# Altium schematic symbol library Maxim Amplifiers and Comparators.SchLib: 420 symbols (part 2 of 16)
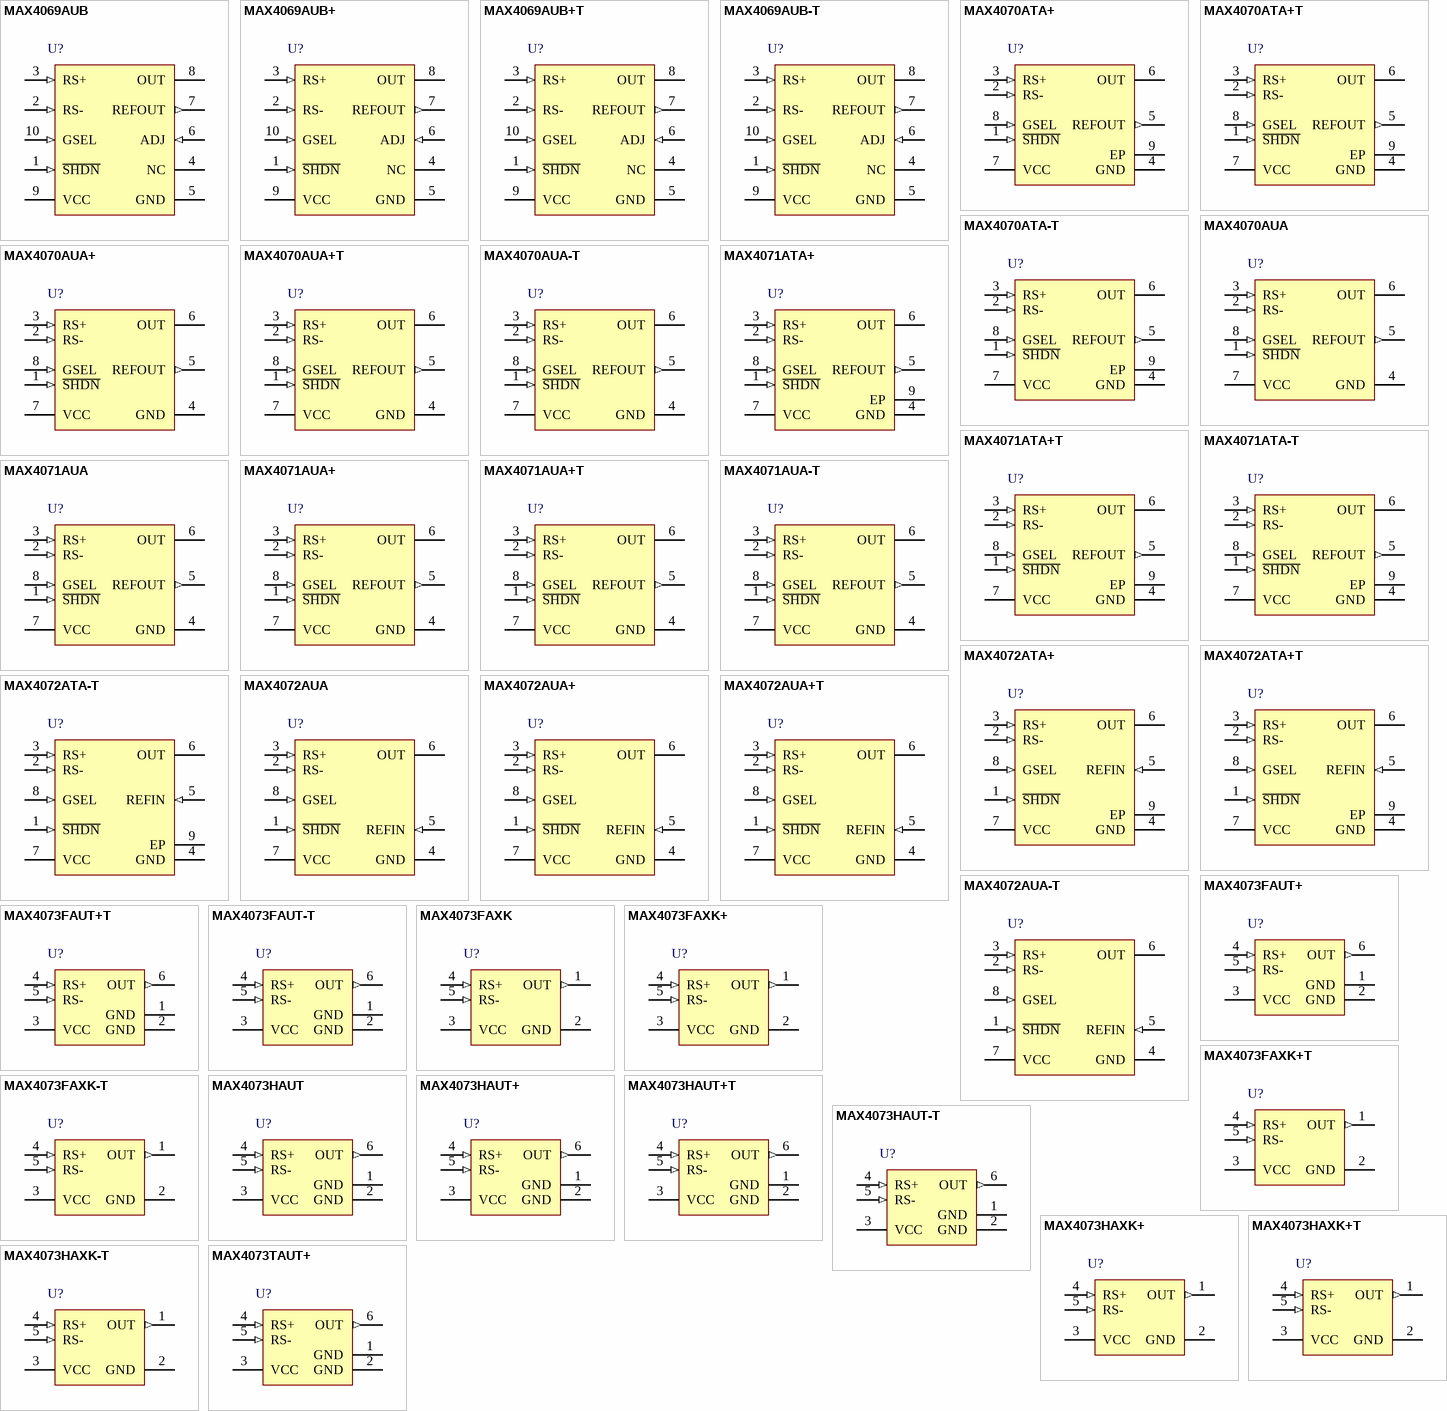
[diagram p11: symbols MAX4069AUB to MAX4073TAUT+]

## MAX4072AUA-T
designator U?
Bidirectional, High-Side Current-Sense Amplifier with Reference Input, 50 V / V, 100 V / V Gain, -40 to 125 degC, 8-Pin SOP (U8-1), Tape and Reel; PartNumber: MAX4072AUA-T; Bi-Dir. Curr. Sense: Yes; Industry Qualified: Automotive - General; DatasheetVersion: Rev. 3; PackageVersion: Rev. L, 08/2009; PackageReference: U8-1; PackageDescription: 8-Pin Micro-MAX, Thin Shrink Small-Outline (U8-1), Body 3 x 3 mm, Pitch 0.65mm; Supplier 1: Digi-Key; Supplier Part Number 1: MAX4072AUA-T-ND; Supplier 2: Mouser; Supplier Part Number 2: 700-MAX4072AUA-T-; Gain: 50 V/V, 100 V/V; Mounting Technology: Surface Mount; Code_JEDEC: MO-187; ComponentLink1Description: Manufacturer URL; ComponentLink1URL: http://www.maximintegrated.com/; ComponentLink2Description: Datasheet; ComponentLink2URL: http://datasheets.maximintegrated.com/en/ds/MAX4069-MAX4072.pdf; ComponentLink3Description: Package Specification; ComponentLink3URL: http://pdfserv.maximintegrated.com/package_dwgs/21-0036.PDF
footprint MAXM-U8-1_N (SOP, 8-Leads, Body 3x3mm, Pitch 0.65mm, IPC Medium Density)
footprint MAXM-U8-1_L (SOP, 8-Leads, Body 3x3mm, Pitch 0.65mm, IPC High Density)
footprint MAXM-U8-1_M (SOP, 8-Leads, Body 3x3mm, Pitch 0.65mm, IPC Low Density)
pins: 1 ~{SHDN} (in) "Shutdown Input. Drive S\H\D\N\ low to select shutdown mode. Connect S\H\D\N\ to VCC for normal operation.", 2 RS- (in) "Negative Connection to the External Sense Resistor", 3 RS+ (in) "Positive Connection to the External Sense Resistor", 4 GND (power) "Ground. For thin QFN packages, also make an external connection from GND to the under-side exposed paddle.", 5 REFIN (in) "Reference Input Voltage.", 6 OUT (hiz) "Voltage Output. The difference voltage, VOUT - VREF, is proportional to the voltage difference between RS+ and RS- and indicates the correct polarity.", 7 VCC (power) "Supply Voltage Input. Bypass VCC to GND with a 0.1uF capacitor.", 8 GSEL (in) "Gain-Setting Input. Connect GSEL low to select gain = 50V/V, or connect GSEL high to select gain = 100V/V."

## MAX4073FAUT+
designator U?
Lowest-Cost, Voltage-Output, High-Side Current-Sense Amplifier, 50 V / V Gain, -40 to 125 degC, 6-Pin SOT23 (U6+4), Pb-Free; PartNumber: MAX4073FAUT+; Bi-Dir. Curr. Sense: No; Gain: 20 V/V, 50 V/V ,100 V/V; Industry Qualified: Automotive - General; DatasheetVersion: Rev. 1; PackageVersion: Rev. N, 08/2012; PackageReference: U6+4; PackageDescription: 6-Pin Small-Outline Transistor Package, Body 1.625 x 2.9 mm, Pitch 0.95 mm; Supplier 1: Mouser; Supplier Part Number 1: N/A; Mounting Technology: Surface Mount; Code_JEDEC: MO-178; ComponentLink1Description: Manufacturer URL; ComponentLink1URL: http://www.maximintegrated.com/; ComponentLink2Description: Datasheet; ComponentLink2URL: http://datasheets.maximintegrated.com/en/ds/MAX4073-MAX4073T.pdf; ComponentLink3Description: Package Specification; ComponentLink3URL: http://pdfserv.maximintegrated.com/package_dwgs/21-0058.PDF
footprint MAXM-U6+4_N (SOT23, 6-Leads, Body 2.9x1.625mm, Pitch 0.95mm, IPC Medium Density)
footprint MAXM-U6+4_L (SOT23, 6-Leads, Body 2.9x1.625mm, Pitch 0.95mm, IPC High Density)
footprint MAXM-U6+4_M (SOT23, 6-Leads, Body 2.9x1.625mm, Pitch 0.95mm, IPC Low Density)
pins: 1 GND (power) "Ground", 2 GND (power) "Ground", 3 VCC (power) "Supply Voltage Input. Bypass to GND with a 0.1uF capacitor", 4 RS+ (in) "Power-Side Connection to the External Sense Resistor", 5 RS- (in) "Load-Side Connection to the External Sense Resistor", 6 OUT (out) "Voltage Output. VOUT is proportional to VSENSE. Output impedance is approximately 12k ohm."

## MAX4073FAUT+T
designator U?
Lowest-Cost, Voltage-Output, High-Side Current-Sense Amplifier, 50 V / V Gain, -40 to 125 degC, 6-Pin SOT23 (U6+4), Pb-Free, Tape and Reel; PartNumber: MAX4073FAUT+T; Bi-Dir. Curr. Sense: No; Gain: 20 V/V, 50 V/V ,100 V/V; Industry Qualified: Automotive - General; DatasheetVersion: Rev. 1; PackageVersion: Rev. N, 08/2012; PackageReference: U6+4; PackageDescription: 6-Pin Small-Outline Transistor Package, Body 1.625 x 2.9 mm, Pitch 0.95 mm; Supplier 1: Digi-Key; Supplier Part Number 1: MAX4073FAUT+TTR-ND; Supplier 2: Digi-Key; Supplier Part Number 2: MAX4073FAUT+TCT-ND; Supplier 3: Digi-Key; Supplier Part Number 3: MAX4073FAUT+TDKR-ND; Supplier 4: Mouser; Supplier Part Number 4: 700-MAX4073FAUT+T; Mounting Technology: Surface Mount; Code_JEDEC: MO-178; ComponentLink1Description: Manufacturer URL; ComponentLink1URL: http://www.maximintegrated.com/; ComponentLink2Description: Datasheet; ComponentLink2URL: http://datasheets.maximintegrated.com/en/ds/MAX4073-MAX4073T.pdf; ComponentLink3Description: Package Specification; ComponentLink3URL: http://pdfserv.maximintegrated.com/package_dwgs/21-0058.PDF
footprint MAXM-U6+4_N (SOT23, 6-Leads, Body 2.9x1.625mm, Pitch 0.95mm, IPC Medium Density)
footprint MAXM-U6+4_L (SOT23, 6-Leads, Body 2.9x1.625mm, Pitch 0.95mm, IPC High Density)
footprint MAXM-U6+4_M (SOT23, 6-Leads, Body 2.9x1.625mm, Pitch 0.95mm, IPC Low Density)
pins: 1 GND (power) "Ground", 2 GND (power) "Ground", 3 VCC (power) "Supply Voltage Input. Bypass to GND with a 0.1uF capacitor", 4 RS+ (in) "Power-Side Connection to the External Sense Resistor", 5 RS- (in) "Load-Side Connection to the External Sense Resistor", 6 OUT (out) "Voltage Output. VOUT is proportional to VSENSE. Output impedance is approximately 12k ohm."

## MAX4073FAUT-T
designator U?
Lowest-Cost, Voltage-Output, High-Side Current-Sense Amplifier, 50 V / V Gain, -40 to 125 degC, 6-Pin SOT23 (U6-4), Tape and Reel; PartNumber: MAX4073FAUT-T; Bi-Dir. Curr. Sense: No; Gain: 20 V/V, 50 V/V ,100 V/V; Industry Qualified: Automotive - General; DatasheetVersion: Rev. 1; PackageVersion: Rev. N, 08/2012; PackageReference: U6-4; PackageDescription: 6-Pin Small-Outline Transistor Package, Body 1.625 x 2.9 mm, Pitch 0.95 mm; Supplier 1: Digi-Key; Supplier Part Number 1: MAX4073FAUT-T-ND; Supplier 2: Mouser; Supplier Part Number 2: 700-MAX4073FAUT-T-; Mounting Technology: Surface Mount; Code_JEDEC: MO-178; ComponentLink1Description: Manufacturer URL; ComponentLink1URL: http://www.maximintegrated.com/; ComponentLink2Description: Datasheet; ComponentLink2URL: http://datasheets.maximintegrated.com/en/ds/MAX4073-MAX4073T.pdf; ComponentLink3Description: Package Specification; ComponentLink3URL: http://pdfserv.maximintegrated.com/package_dwgs/21-0058.PDF
footprint MAXM-U6-4_N (SOT23, 6-Leads, Body 2.9x1.625mm, Pitch 0.95mm, IPC Medium Density)
footprint MAXM-U6-4_L (SOT23, 6-Leads, Body 2.9x1.625mm, Pitch 0.95mm, IPC High Density)
footprint MAXM-U6-4_M (SOT23, 6-Leads, Body 2.9x1.625mm, Pitch 0.95mm, IPC Low Density)
pins: 1 GND (power) "Ground", 2 GND (power) "Ground", 3 VCC (power) "Supply Voltage Input. Bypass to GND with a 0.1uF capacitor", 4 RS+ (in) "Power-Side Connection to the External Sense Resistor", 5 RS- (in) "Load-Side Connection to the External Sense Resistor", 6 OUT (out) "Voltage Output. VOUT is proportional to VSENSE. Output impedance is approximately 12k ohm."

## MAX4073FAXK
designator U?
Lowest-Cost, Voltage-Output, High-Side Current-Sense Amplifier, 50 V / V Gain, -40 to 125 degC, 5-Pin SC70 (X5-1); PartNumber: MAX4073FAXK; Bi-Dir. Curr. Sense: No; Gain: 20 V/V, 50 V/V ,100 V/V; Industry Qualified: Automotive - General; DatasheetVersion: Rev. 1; PackageVersion: Rev. F, 06/2011; PackageReference: X5-1; PackageDescription: 5-Pin SC70 Transistor Package (X5-1), Body 2 x 1.25 mm, Pitch 0.65 mm; Supplier 1: Mouser; Supplier Part Number 1: N/A; Mounting Technology: Surface Mount; Code_JEDEC: MO-203; ComponentLink1Description: Manufacturer URL; ComponentLink1URL: http://www.maximintegrated.com/; ComponentLink2Description: Datasheet; ComponentLink2URL: http://datasheets.maximintegrated.com/en/ds/MAX4073-MAX4073T.pdf; ComponentLink3Description: Package Specification; ComponentLink3URL: http://pdfserv.maximintegrated.com/package_dwgs/21-0076.PDF
footprint MAXM-X5-1_N (SOT23, 5-Leads, Body 2x1.25mm, Pitch 0.65mm, IPC Medium Density)
footprint MAXM-X5-1_L (SOT23, 5-Leads, Body 2x1.25mm, Pitch 0.65mm, IPC High Density)
footprint MAXM-X5-1_M (SOT23, 5-Leads, Body 2x1.25mm, Pitch 0.65mm, IPC Low Density)
pins: 1 OUT (out) "Voltage Output. VOUT is proportional to VSENSE. Output impedance is approximately 12k ohm.", 2 GND (power) "Ground", 3 VCC (power) "Supply Voltage Input. Bypass to GND with a 0.1uF capacitor", 4 RS+ (in) "Power-Side Connection to the External Sense Resistor", 5 RS- (in) "Load-side connection to the external sense resistor"

## MAX4073FAXK+
designator U?
Lowest-Cost, Voltage-Output, High-Side Current-Sense Amplifier, 50 V / V Gain, -40 to 125 degC, 5-Pin SC70 (X5+1), Pb-Free; PartNumber: MAX4073FAXK+; Bi-Dir. Curr. Sense: No; Gain: 20 V/V, 50 V/V ,100 V/V; Industry Qualified: Automotive - General; DatasheetVersion: Rev. 1; PackageVersion: Rev. F, 06/2011; PackageReference: X5+1; PackageDescription: 5-Pin SC70 Transistor Package (X5+1), Body 2 x 1.25 mm, Pitch 0.65 mm; Supplier 1: Mouser; Supplier Part Number 1: N/A; Mounting Technology: Surface Mount; Code_JEDEC: MO-203; ComponentLink1Description: Manufacturer URL; ComponentLink1URL: http://www.maximintegrated.com/; ComponentLink2Description: Datasheet; ComponentLink2URL: http://datasheets.maximintegrated.com/en/ds/MAX4073-MAX4073T.pdf; ComponentLink3Description: Package Specification; ComponentLink3URL: http://pdfserv.maximintegrated.com/package_dwgs/21-0076.PDF
footprint MAXM-X5+1_N (SOT23, 5-Leads, Body 2x1.25mm, Pitch 0.65mm, IPC Medium Density)
footprint MAXM-X5+1_L (SOT23, 5-Leads, Body 2x1.25mm, Pitch 0.65mm, IPC High Density)
footprint MAXM-X5+1_M (SOT23, 5-Leads, Body 2x1.25mm, Pitch 0.65mm, IPC Low Density)
pins: 1 OUT (out) "Voltage Output. VOUT is proportional to VSENSE. Output impedance is approximately 12k ohm.", 2 GND (power) "Ground", 3 VCC (power) "Supply Voltage Input. Bypass to GND with a 0.1uF capacitor", 4 RS+ (in) "Power-Side Connection to the External Sense Resistor", 5 RS- (in) "Load-side connection to the external sense resistor"

## MAX4073FAXK+T
designator U?
Lowest-Cost, Voltage-Output, High-Side Current-Sense Amplifier, 50 V / V Gain, -40 to 125 degC, 5-Pin SC70 (X5+1), Pb-Free, Tape and Reel; PartNumber: MAX4073FAXK+T; Bi-Dir. Curr. Sense: No; Gain: 20 V/V, 50 V/V ,100 V/V; Industry Qualified: Automotive - General; DatasheetVersion: Rev. 1; PackageVersion: Rev. F, 06/2011; PackageReference: X5+1; PackageDescription: 5-Pin SC70 Transistor Package (X5+1), Body 2 x 1.25 mm, Pitch 0.65 mm; Supplier 1: Digi-Key; Supplier Part Number 1: MAX4073FAXK+TTR-ND; Supplier 2: Digi-Key; Supplier Part Number 2: MAX4073FAXK+TCT-ND; Supplier 3: Digi-Key; Supplier Part Number 3: MAX4073FAXK+TDKR-ND; Supplier 4: Mouser; Supplier Part Number 4: 700-MAX4073FAXK+T; Mounting Technology: Surface Mount; Code_JEDEC: MO-203; ComponentLink1Description: Manufacturer URL; ComponentLink1URL: http://www.maximintegrated.com/; ComponentLink2Description: Datasheet; ComponentLink2URL: http://datasheets.maximintegrated.com/en/ds/MAX4073-MAX4073T.pdf; ComponentLink3Description: Package Specification; ComponentLink3URL: http://pdfserv.maximintegrated.com/package_dwgs/21-0076.PDF
footprint MAXM-X5+1_N (SOT23, 5-Leads, Body 2x1.25mm, Pitch 0.65mm, IPC Medium Density)
footprint MAXM-X5+1_L (SOT23, 5-Leads, Body 2x1.25mm, Pitch 0.65mm, IPC High Density)
footprint MAXM-X5+1_M (SOT23, 5-Leads, Body 2x1.25mm, Pitch 0.65mm, IPC Low Density)
pins: 1 OUT (out) "Voltage Output. VOUT is proportional to VSENSE. Output impedance is approximately 12k ohm.", 2 GND (power) "Ground", 3 VCC (power) "Supply Voltage Input. Bypass to GND with a 0.1uF capacitor", 4 RS+ (in) "Power-Side Connection to the External Sense Resistor", 5 RS- (in) "Load-side connection to the external sense resistor"

## MAX4073FAXK-T
designator U?
Lowest-Cost, Voltage-Output, High-Side Current-Sense Amplifier, 50 V / V Gain, -40 to 125 degC, 5-Pin SC70 (X5-1), Tape and Reel; PartNumber: MAX4073FAXK-T; Bi-Dir. Curr. Sense: No; Gain: 20 V/V, 50 V/V ,100 V/V; Industry Qualified: Automotive - General; DatasheetVersion: Rev. 1; PackageVersion: Rev. F, 06/2011; PackageReference: X5-1; PackageDescription: 5-Pin SC70 Transistor Package (X5-1), Body 2 x 1.25 mm, Pitch 0.65 mm; Supplier 1: Digi-Key; Supplier Part Number 1: MAX4073FAXK-T-ND; Supplier 2: Mouser; Supplier Part Number 2: 700-MAX4073FAXK-T-; Mounting Technology: Surface Mount; Code_JEDEC: MO-203; ComponentLink1Description: Manufacturer URL; ComponentLink1URL: http://www.maximintegrated.com/; ComponentLink2Description: Datasheet; ComponentLink2URL: http://datasheets.maximintegrated.com/en/ds/MAX4073-MAX4073T.pdf; ComponentLink3Description: Package Specification; ComponentLink3URL: http://pdfserv.maximintegrated.com/package_dwgs/21-0076.PDF
footprint MAXM-X5-1_N (SOT23, 5-Leads, Body 2x1.25mm, Pitch 0.65mm, IPC Medium Density)
footprint MAXM-X5-1_L (SOT23, 5-Leads, Body 2x1.25mm, Pitch 0.65mm, IPC High Density)
footprint MAXM-X5-1_M (SOT23, 5-Leads, Body 2x1.25mm, Pitch 0.65mm, IPC Low Density)
pins: 1 OUT (out) "Voltage Output. VOUT is proportional to VSENSE. Output impedance is approximately 12k ohm.", 2 GND (power) "Ground", 3 VCC (power) "Supply Voltage Input. Bypass to GND with a 0.1uF capacitor", 4 RS+ (in) "Power-Side Connection to the External Sense Resistor", 5 RS- (in) "Load-side connection to the external sense resistor"

## MAX4073HAUT
designator U?
Lowest-Cost, Voltage-Output, High-Side Current-Sense Amplifier, 100 V / V Gain, -40 to 125 degC, 6-Pin SOT23 (U6-4); PartNumber: MAX4073HAUT; Bi-Dir. Curr. Sense: No; Gain: 20 V/V, 50 V/V ,100 V/V; Industry Qualified: Automotive - General; DatasheetVersion: Rev. 1; PackageVersion: Rev. N, 08/2012; PackageReference: U6-4; PackageDescription: 6-Pin Small-Outline Transistor Package, Body 1.625 x 2.9 mm, Pitch 0.95 mm; Supplier 1: Mouser; Supplier Part Number 1: N/A; Mounting Technology: Surface Mount; Code_JEDEC: MO-178; ComponentLink1Description: Manufacturer URL; ComponentLink1URL: http://www.maximintegrated.com/; ComponentLink2Description: Datasheet; ComponentLink2URL: http://datasheets.maximintegrated.com/en/ds/MAX4073-MAX4073T.pdf; ComponentLink3Description: Package Specification; ComponentLink3URL: http://pdfserv.maximintegrated.com/package_dwgs/21-0058.PDF
footprint MAXM-U6-4_N (SOT23, 6-Leads, Body 2.9x1.625mm, Pitch 0.95mm, IPC Medium Density)
footprint MAXM-U6-4_L (SOT23, 6-Leads, Body 2.9x1.625mm, Pitch 0.95mm, IPC High Density)
footprint MAXM-U6-4_M (SOT23, 6-Leads, Body 2.9x1.625mm, Pitch 0.95mm, IPC Low Density)
pins: 1 GND (power) "Ground", 2 GND (power) "Ground", 3 VCC (power) "Supply Voltage Input. Bypass to GND with a 0.1uF capacitor", 4 RS+ (in) "Power-Side Connection to the External Sense Resistor", 5 RS- (in) "Load-Side Connection to the External Sense Resistor", 6 OUT (out) "Voltage Output. VOUT is proportional to VSENSE. Output impedance is approximately 12k ohm."

## MAX4073HAUT+
designator U?
Lowest-Cost, Voltage-Output, High-Side Current-Sense Amplifier, 100 V / V Gain, -40 to 125 degC, 6-Pin SOT23 (U6+4), Pb-Free; PartNumber: MAX4073HAUT+; Bi-Dir. Curr. Sense: No; Gain: 20 V/V, 50 V/V ,100 V/V; Industry Qualified: Automotive - General; DatasheetVersion: Rev. 1; PackageVersion: Rev. N, 08/2012; PackageReference: U6+4; PackageDescription: 6-Pin Small-Outline Transistor Package, Body 1.625 x 2.9 mm, Pitch 0.95 mm; Supplier 1: Mouser; Supplier Part Number 1: N/A; Mounting Technology: Surface Mount; Code_JEDEC: MO-178; ComponentLink1Description: Manufacturer URL; ComponentLink1URL: http://www.maximintegrated.com/; ComponentLink2Description: Datasheet; ComponentLink2URL: http://datasheets.maximintegrated.com/en/ds/MAX4073-MAX4073T.pdf; ComponentLink3Description: Package Specification; ComponentLink3URL: http://pdfserv.maximintegrated.com/package_dwgs/21-0058.PDF
footprint MAXM-U6+4_N (SOT23, 6-Leads, Body 2.9x1.625mm, Pitch 0.95mm, IPC Medium Density)
footprint MAXM-U6+4_L (SOT23, 6-Leads, Body 2.9x1.625mm, Pitch 0.95mm, IPC High Density)
footprint MAXM-U6+4_M (SOT23, 6-Leads, Body 2.9x1.625mm, Pitch 0.95mm, IPC Low Density)
pins: 1 GND (power) "Ground", 2 GND (power) "Ground", 3 VCC (power) "Supply Voltage Input. Bypass to GND with a 0.1uF capacitor", 4 RS+ (in) "Power-Side Connection to the External Sense Resistor", 5 RS- (in) "Load-Side Connection to the External Sense Resistor", 6 OUT (out) "Voltage Output. VOUT is proportional to VSENSE. Output impedance is approximately 12k ohm."

## MAX4073HAUT+T
designator U?
Lowest-Cost, Voltage-Output, High-Side Current-Sense Amplifier, 100 V / V Gain, -40 to 125 degC, 6-Pin SOT23 (U6+4), Pb-Free, Tape and Reel; PartNumber: MAX4073HAUT+T; Bi-Dir. Curr. Sense: No; Gain: 20 V/V, 50 V/V ,100 V/V; Industry Qualified: Automotive - General; DatasheetVersion: Rev. 1; PackageVersion: Rev. N, 08/2012; PackageReference: U6+4; PackageDescription: 6-Pin Small-Outline Transistor Package, Body 1.625 x 2.9 mm, Pitch 0.95 mm; Supplier 1: Digi-Key; Supplier Part Number 1: MAX4073HAUT+T-ND; Supplier 2: Mouser; Supplier Part Number 2: 700-MAX4073HAUT+T; Mounting Technology: Surface Mount; Code_JEDEC: MO-178; ComponentLink1Description: Manufacturer URL; ComponentLink1URL: http://www.maximintegrated.com/; ComponentLink2Description: Datasheet; ComponentLink2URL: http://datasheets.maximintegrated.com/en/ds/MAX4073-MAX4073T.pdf; ComponentLink3Description: Package Specification; ComponentLink3URL: http://pdfserv.maximintegrated.com/package_dwgs/21-0058.PDF
footprint MAXM-U6+4_N (SOT23, 6-Leads, Body 2.9x1.625mm, Pitch 0.95mm, IPC Medium Density)
footprint MAXM-U6+4_L (SOT23, 6-Leads, Body 2.9x1.625mm, Pitch 0.95mm, IPC High Density)
footprint MAXM-U6+4_M (SOT23, 6-Leads, Body 2.9x1.625mm, Pitch 0.95mm, IPC Low Density)
pins: 1 GND (power) "Ground", 2 GND (power) "Ground", 3 VCC (power) "Supply Voltage Input. Bypass to GND with a 0.1uF capacitor", 4 RS+ (in) "Power-Side Connection to the External Sense Resistor", 5 RS- (in) "Load-Side Connection to the External Sense Resistor", 6 OUT (out) "Voltage Output. VOUT is proportional to VSENSE. Output impedance is approximately 12k ohm."

## MAX4073HAUT-T
designator U?
Lowest-Cost, Voltage-Output, High-Side Current-Sense Amplifier, 100 V / V Gain, -40 to 125 degC, 6-Pin SOT23 (U6-4), Tape and Reel; PartNumber: MAX4073HAUT-T; Bi-Dir. Curr. Sense: No; Gain: 20 V/V, 50 V/V ,100 V/V; Industry Qualified: Automotive - General; DatasheetVersion: Rev. 1; PackageVersion: Rev. N, 08/2012; PackageReference: U6-4; PackageDescription: 6-Pin Small-Outline Transistor Package, Body 1.625 x 2.9 mm, Pitch 0.95 mm; Supplier 1: Digi-Key; Supplier Part Number 1: MAX4073HAUT-T-ND; Supplier 2: Mouser; Supplier Part Number 2: 700-MAX4073HAUT-T-; Mounting Technology: Surface Mount; Code_JEDEC: MO-178; ComponentLink1Description: Manufacturer URL; ComponentLink1URL: http://www.maximintegrated.com/; ComponentLink2Description: Datasheet; ComponentLink2URL: http://datasheets.maximintegrated.com/en/ds/MAX4073-MAX4073T.pdf; ComponentLink3Description: Package Specification; ComponentLink3URL: http://pdfserv.maximintegrated.com/package_dwgs/21-0058.PDF
footprint MAXM-U6-4_N (SOT23, 6-Leads, Body 2.9x1.625mm, Pitch 0.95mm, IPC Medium Density)
footprint MAXM-U6-4_L (SOT23, 6-Leads, Body 2.9x1.625mm, Pitch 0.95mm, IPC High Density)
footprint MAXM-U6-4_M (SOT23, 6-Leads, Body 2.9x1.625mm, Pitch 0.95mm, IPC Low Density)
pins: 1 GND (power) "Ground", 2 GND (power) "Ground", 3 VCC (power) "Supply Voltage Input. Bypass to GND with a 0.1uF capacitor", 4 RS+ (in) "Power-Side Connection to the External Sense Resistor", 5 RS- (in) "Load-Side Connection to the External Sense Resistor", 6 OUT (out) "Voltage Output. VOUT is proportional to VSENSE. Output impedance is approximately 12k ohm."

## MAX4073HAXK+
designator U?
Lowest-Cost, Voltage-Output, High-Side Current-Sense Amplifier, 100 V / V Gain, -40 to 125 degC, 5-Pin SC70 (X5+1), Pb-Free; PartNumber: MAX4073HAXK+; Bi-Dir. Curr. Sense: No; Gain: 20 V/V, 50 V/V ,100 V/V; Industry Qualified: Automotive - General; DatasheetVersion: Rev. 1; PackageVersion: Rev. F, 06/2011; PackageReference: X5+1; PackageDescription: 5-Pin SC70 Transistor Package (X5+1), Body 2 x 1.25 mm, Pitch 0.65 mm; Supplier 1: Mouser; Supplier Part Number 1: N/A; Mounting Technology: Surface Mount; Code_JEDEC: MO-203; ComponentLink1Description: Manufacturer URL; ComponentLink1URL: http://www.maximintegrated.com/; ComponentLink2Description: Datasheet; ComponentLink2URL: http://datasheets.maximintegrated.com/en/ds/MAX4073-MAX4073T.pdf; ComponentLink3Description: Package Specification; ComponentLink3URL: http://pdfserv.maximintegrated.com/package_dwgs/21-0076.PDF
footprint MAXM-X5+1_N (SOT23, 5-Leads, Body 2x1.25mm, Pitch 0.65mm, IPC Medium Density)
footprint MAXM-X5+1_L (SOT23, 5-Leads, Body 2x1.25mm, Pitch 0.65mm, IPC High Density)
footprint MAXM-X5+1_M (SOT23, 5-Leads, Body 2x1.25mm, Pitch 0.65mm, IPC Low Density)
pins: 1 OUT (out) "Voltage Output. VOUT is proportional to VSENSE. Output impedance is approximately 12k ohm.", 2 GND (power) "Ground", 3 VCC (power) "Supply Voltage Input. Bypass to GND with a 0.1uF capacitor", 4 RS+ (in) "Power-Side Connection to the External Sense Resistor", 5 RS- (in) "Load-side connection to the external sense resistor"

## MAX4073HAXK+T
designator U?
Lowest-Cost, Voltage-Output, High-Side Current-Sense Amplifier, 100 V / V Gain, -40 to 125 degC, 5-Pin SC70 (X5+1), Pb-Free, Tape and Reel; PartNumber: MAX4073HAXK+T; Bi-Dir. Curr. Sense: No; Gain: 20 V/V, 50 V/V ,100 V/V; Industry Qualified: Automotive - General; DatasheetVersion: Rev. 1; PackageVersion: Rev. F, 06/2011; PackageReference: X5+1; PackageDescription: 5-Pin SC70 Transistor Package (X5+1), Body 2 x 1.25 mm, Pitch 0.65 mm; Supplier 1: Digi-Key; Supplier Part Number 1: MAX4073HAXK+TTR-ND; Supplier 2: Digi-Key; Supplier Part Number 2: MAX4073HAXK+TCT-ND; Supplier 3: Digi-Key; Supplier Part Number 3: MAX4073HAXK+TDKR-ND; Supplier 4: Mouser; Supplier Part Number 4: 700-MAX4073HAXK+T; Mounting Technology: Surface Mount; Code_JEDEC: MO-203; ComponentLink1Description: Manufacturer URL; ComponentLink1URL: http://www.maximintegrated.com/; ComponentLink2Description: Datasheet; ComponentLink2URL: http://datasheets.maximintegrated.com/en/ds/MAX4073-MAX4073T.pdf; ComponentLink3Description: Package Specification; ComponentLink3URL: http://pdfserv.maximintegrated.com/package_dwgs/21-0076.PDF
footprint MAXM-X5+1_N (SOT23, 5-Leads, Body 2x1.25mm, Pitch 0.65mm, IPC Medium Density)
footprint MAXM-X5+1_L (SOT23, 5-Leads, Body 2x1.25mm, Pitch 0.65mm, IPC High Density)
footprint MAXM-X5+1_M (SOT23, 5-Leads, Body 2x1.25mm, Pitch 0.65mm, IPC Low Density)
pins: 1 OUT (out) "Voltage Output. VOUT is proportional to VSENSE. Output impedance is approximately 12k ohm.", 2 GND (power) "Ground", 3 VCC (power) "Supply Voltage Input. Bypass to GND with a 0.1uF capacitor", 4 RS+ (in) "Power-Side Connection to the External Sense Resistor", 5 RS- (in) "Load-side connection to the external sense resistor"

## MAX4073HAXK-T
designator U?
Lowest-Cost, Voltage-Output, High-Side Current-Sense Amplifier, 100 V / V Gain, -40 to 125 degC, 5-Pin SC70 (X5-1), Tape and Reel; PartNumber: MAX4073HAXK-T; Bi-Dir. Curr. Sense: No; Gain: 20 V/V, 50 V/V ,100 V/V; Industry Qualified: Automotive - General; DatasheetVersion: Rev. 1; PackageVersion: Rev. F, 06/2011; PackageReference: X5-1; PackageDescription: 5-Pin SC70 Transistor Package (X5-1), Body 2 x 1.25 mm, Pitch 0.65 mm; Supplier 1: Digi-Key; Supplier Part Number 1: MAX4073HAXK-T-ND; Supplier 2: Mouser; Supplier Part Number 2: 700-MAX4073HAXK-T-; Mounting Technology: Surface Mount; Code_JEDEC: MO-203; ComponentLink1Description: Manufacturer URL; ComponentLink1URL: http://www.maximintegrated.com/; ComponentLink2Description: Datasheet; ComponentLink2URL: http://datasheets.maximintegrated.com/en/ds/MAX4073-MAX4073T.pdf; ComponentLink3Description: Package Specification; ComponentLink3URL: http://pdfserv.maximintegrated.com/package_dwgs/21-0076.PDF
footprint MAXM-X5-1_N (SOT23, 5-Leads, Body 2x1.25mm, Pitch 0.65mm, IPC Medium Density)
footprint MAXM-X5-1_L (SOT23, 5-Leads, Body 2x1.25mm, Pitch 0.65mm, IPC High Density)
footprint MAXM-X5-1_M (SOT23, 5-Leads, Body 2x1.25mm, Pitch 0.65mm, IPC Low Density)
pins: 1 OUT (out) "Voltage Output. VOUT is proportional to VSENSE. Output impedance is approximately 12k ohm.", 2 GND (power) "Ground", 3 VCC (power) "Supply Voltage Input. Bypass to GND with a 0.1uF capacitor", 4 RS+ (in) "Power-Side Connection to the External Sense Resistor", 5 RS- (in) "Load-side connection to the external sense resistor"

## MAX4073TAUT+
designator U?
Lowest-Cost, Voltage-Output, High-Side Current-Sense Amplifier, 20 V / V Gain, -40 to 125 degC, 6-Pin SOT23 (U6+4), Pb-Free; PartNumber: MAX4073TAUT+; Bi-Dir. Curr. Sense: No; Gain: 20 V/V, 50 V/V ,100 V/V; Industry Qualified: Automotive - General; DatasheetVersion: Rev. 1; PackageVersion: Rev. N, 08/2012; PackageReference: U6+4; PackageDescription: 6-Pin Small-Outline Transistor Package, Body 1.625 x 2.9 mm, Pitch 0.95 mm; Supplier 1: Mouser; Supplier Part Number 1: N/A; Mounting Technology: Surface Mount; Code_JEDEC: MO-178; ComponentLink1Description: Manufacturer URL; ComponentLink1URL: http://www.maximintegrated.com/; ComponentLink2Description: Datasheet; ComponentLink2URL: http://datasheets.maximintegrated.com/en/ds/MAX4073-MAX4073T.pdf; ComponentLink3Description: Package Specification; ComponentLink3URL: http://pdfserv.maximintegrated.com/package_dwgs/21-0058.PDF
footprint MAXM-U6+4_N (SOT23, 6-Leads, Body 2.9x1.625mm, Pitch 0.95mm, IPC Medium Density)
footprint MAXM-U6+4_L (SOT23, 6-Leads, Body 2.9x1.625mm, Pitch 0.95mm, IPC High Density)
footprint MAXM-U6+4_M (SOT23, 6-Leads, Body 2.9x1.625mm, Pitch 0.95mm, IPC Low Density)
pins: 1 GND (power) "Ground", 2 GND (power) "Ground", 3 VCC (power) "Supply Voltage Input. Bypass to GND with a 0.1uF capacitor", 4 RS+ (in) "Power-Side Connection to the External Sense Resistor", 5 RS- (in) "Load-Side Connection to the External Sense Resistor", 6 OUT (out) "Voltage Output. VOUT is proportional to VSENSE. Output impedance is approximately 12k ohm."

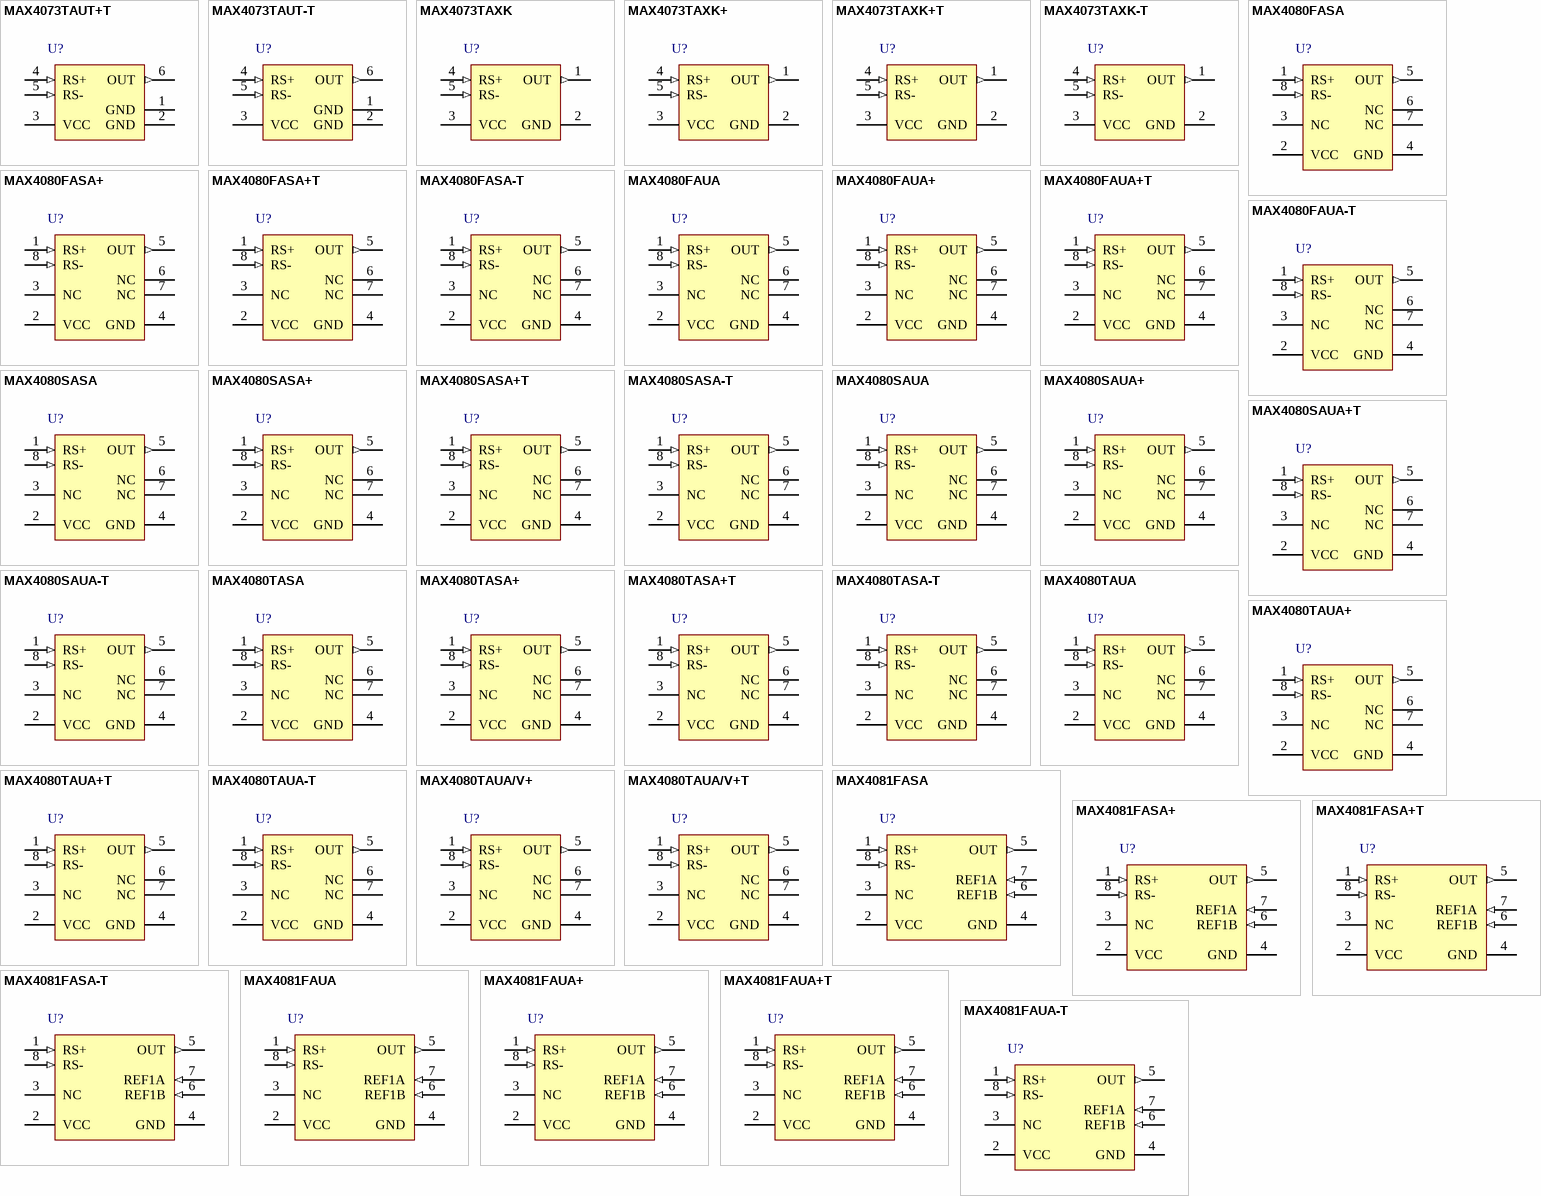
[diagram p1: symbols MAX4073TAUT+T to MAX4081FAUA-T]

## MAX4073TAUT+T
designator U?
Lowest-Cost, Voltage-Output, High-Side Current-Sense Amplifier, 20 V / V Gain, -40 to 125 degC, 6-Pin SOT23 (U6+4), Pb-Free, Tape and Reel; PartNumber: MAX4073TAUT+T; Bi-Dir. Curr. Sense: No; Gain: 20 V/V, 50 V/V ,100 V/V; Industry Qualified: Automotive - General; DatasheetVersion: Rev. 1; PackageVersion: Rev. N, 08/2012; PackageReference: U6+4; PackageDescription: 6-Pin Small-Outline Transistor Package, Body 1.625 x 2.9 mm, Pitch 0.95 mm; Supplier 1: Digi-Key; Supplier Part Number 1: MAX4073TAUT+TTR-ND; Supplier 2: Digi-Key; Supplier Part Number 2: MAX4073TAUT+TCT-ND; Supplier 3: Digi-Key; Supplier Part Number 3: MAX4073TAUT+TDKR-ND; Supplier 4: Mouser; Supplier Part Number 4: 700-MAX4073TAUT+T; Mounting Technology: Surface Mount; Code_JEDEC: MO-178; ComponentLink1Description: Manufacturer URL; ComponentLink1URL: http://www.maximintegrated.com/; ComponentLink2Description: Datasheet; ComponentLink2URL: http://datasheets.maximintegrated.com/en/ds/MAX4073-MAX4073T.pdf; ComponentLink3Description: Package Specification; ComponentLink3URL: http://pdfserv.maximintegrated.com/package_dwgs/21-0058.PDF
footprint MAXM-U6+4_N (SOT23, 6-Leads, Body 2.9x1.625mm, Pitch 0.95mm, IPC Medium Density)
footprint MAXM-U6+4_L (SOT23, 6-Leads, Body 2.9x1.625mm, Pitch 0.95mm, IPC High Density)
footprint MAXM-U6+4_M (SOT23, 6-Leads, Body 2.9x1.625mm, Pitch 0.95mm, IPC Low Density)
pins: 1 GND (power) "Ground", 2 GND (power) "Ground", 3 VCC (power) "Supply Voltage Input. Bypass to GND with a 0.1uF capacitor", 4 RS+ (in) "Power-Side Connection to the External Sense Resistor", 5 RS- (in) "Load-Side Connection to the External Sense Resistor", 6 OUT (out) "Voltage Output. VOUT is proportional to VSENSE. Output impedance is approximately 12k ohm."

## MAX4073TAUT-T
designator U?
Lowest-Cost, Voltage-Output, High-Side Current-Sense Amplifier, 20 V / V Gain, -40 to 125 degC, 6-Pin SOT23 (U6-4), Tape and Reel; PartNumber: MAX4073TAUT-T; Bi-Dir. Curr. Sense: No; Gain: 20 V/V, 50 V/V ,100 V/V; Industry Qualified: Automotive - General; DatasheetVersion: Rev. 1; PackageVersion: Rev. N, 08/2012; PackageReference: U6-4; PackageDescription: 6-Pin Small-Outline Transistor Package, Body 1.625 x 2.9 mm, Pitch 0.95 mm; Supplier 1: Mouser; Supplier Part Number 1: N/A; Mounting Technology: Surface Mount; Code_JEDEC: MO-178; ComponentLink1Description: Manufacturer URL; ComponentLink1URL: http://www.maximintegrated.com/; ComponentLink2Description: Datasheet; ComponentLink2URL: http://datasheets.maximintegrated.com/en/ds/MAX4073-MAX4073T.pdf; ComponentLink3Description: Package Specification; ComponentLink3URL: http://pdfserv.maximintegrated.com/package_dwgs/21-0058.PDF
footprint MAXM-U6-4_N (SOT23, 6-Leads, Body 2.9x1.625mm, Pitch 0.95mm, IPC Medium Density)
footprint MAXM-U6-4_L (SOT23, 6-Leads, Body 2.9x1.625mm, Pitch 0.95mm, IPC High Density)
footprint MAXM-U6-4_M (SOT23, 6-Leads, Body 2.9x1.625mm, Pitch 0.95mm, IPC Low Density)
pins: 1 GND (power) "Ground", 2 GND (power) "Ground", 3 VCC (power) "Supply Voltage Input. Bypass to GND with a 0.1uF capacitor", 4 RS+ (in) "Power-Side Connection to the External Sense Resistor", 5 RS- (in) "Load-Side Connection to the External Sense Resistor", 6 OUT (out) "Voltage Output. VOUT is proportional to VSENSE. Output impedance is approximately 12k ohm."

## MAX4073TAXK
designator U?
Lowest-Cost, Voltage-Output, High-Side Current-Sense Amplifier, 20 V / V Gain, -40 to 125 degC, 5-Pin SC70 (X5-1); PartNumber: MAX4073TAXK; Bi-Dir. Curr. Sense: No; Gain: 20 V/V, 50 V/V ,100 V/V; Industry Qualified: Automotive - General; DatasheetVersion: Rev. 1; PackageVersion: Rev. F, 06/2011; PackageReference: X5-1; PackageDescription: 5-Pin SC70 Transistor Package (X5-1), Body 2 x 1.25 mm, Pitch 0.65 mm; Supplier 1: Mouser; Supplier Part Number 1: N/A; Mounting Technology: Surface Mount; Code_JEDEC: MO-203; ComponentLink1Description: Manufacturer URL; ComponentLink1URL: http://www.maximintegrated.com/; ComponentLink2Description: Datasheet; ComponentLink2URL: http://datasheets.maximintegrated.com/en/ds/MAX4073-MAX4073T.pdf; ComponentLink3Description: Package Specification; ComponentLink3URL: http://pdfserv.maximintegrated.com/package_dwgs/21-0076.PDF
footprint MAXM-X5-1_N (SOT23, 5-Leads, Body 2x1.25mm, Pitch 0.65mm, IPC Medium Density)
footprint MAXM-X5-1_L (SOT23, 5-Leads, Body 2x1.25mm, Pitch 0.65mm, IPC High Density)
footprint MAXM-X5-1_M (SOT23, 5-Leads, Body 2x1.25mm, Pitch 0.65mm, IPC Low Density)
pins: 1 OUT (out) "Voltage Output. VOUT is proportional to VSENSE. Output impedance is approximately 12k ohm.", 2 GND (power) "Ground", 3 VCC (power) "Supply Voltage Input. Bypass to GND with a 0.1uF capacitor", 4 RS+ (in) "Power-Side Connection to the External Sense Resistor", 5 RS- (in) "Load-side connection to the external sense resistor"

## MAX4073TAXK+
designator U?
Lowest-Cost, Voltage-Output, High-Side Current-Sense Amplifier, 20 V / V Gain, -40 to 125 degC, 5-Pin SC70 (X5+1), Pb-Free; PartNumber: MAX4073TAXK+; Bi-Dir. Curr. Sense: No; Gain: 20 V/V, 50 V/V ,100 V/V; Industry Qualified: Automotive - General; DatasheetVersion: Rev. 1; PackageVersion: Rev. F, 06/2011; PackageReference: X5+1; PackageDescription: 5-Pin SC70 Transistor Package (X5+1), Body 2 x 1.25 mm, Pitch 0.65 mm; Supplier 1: Mouser; Supplier Part Number 1: N/A; Mounting Technology: Surface Mount; Code_JEDEC: MO-203; ComponentLink1Description: Manufacturer URL; ComponentLink1URL: http://www.maximintegrated.com/; ComponentLink2Description: Datasheet; ComponentLink2URL: http://datasheets.maximintegrated.com/en/ds/MAX4073-MAX4073T.pdf; ComponentLink3Description: Package Specification; ComponentLink3URL: http://pdfserv.maximintegrated.com/package_dwgs/21-0076.PDF
footprint MAXM-X5+1_N (SOT23, 5-Leads, Body 2x1.25mm, Pitch 0.65mm, IPC Medium Density)
footprint MAXM-X5+1_L (SOT23, 5-Leads, Body 2x1.25mm, Pitch 0.65mm, IPC High Density)
footprint MAXM-X5+1_M (SOT23, 5-Leads, Body 2x1.25mm, Pitch 0.65mm, IPC Low Density)
pins: 1 OUT (out) "Voltage Output. VOUT is proportional to VSENSE. Output impedance is approximately 12k ohm.", 2 GND (power) "Ground", 3 VCC (power) "Supply Voltage Input. Bypass to GND with a 0.1uF capacitor", 4 RS+ (in) "Power-Side Connection to the External Sense Resistor", 5 RS- (in) "Load-side connection to the external sense resistor"

## MAX4073TAXK+T
designator U?
Lowest-Cost, Voltage-Output, High-Side Current-Sense Amplifier, 20 V / V Gain, -40 to 125 degC, 5-Pin SC70 (X5+1), Pb-Free, Tape and Reel; PartNumber: MAX4073TAXK+T; Bi-Dir. Curr. Sense: No; Gain: 20 V/V, 50 V/V ,100 V/V; Industry Qualified: Automotive - General; DatasheetVersion: Rev. 1; PackageVersion: Rev. F, 06/2011; PackageReference: X5+1; PackageDescription: 5-Pin SC70 Transistor Package (X5+1), Body 2 x 1.25 mm, Pitch 0.65 mm; Supplier 1: Digi-Key; Supplier Part Number 1: MAX4073TAXK+TTR-ND; Supplier 2: Digi-Key; Supplier Part Number 2: MAX4073TAXK+TCT-ND; Supplier 3: Digi-Key; Supplier Part Number 3: MAX4073TAXK+TDKR-ND; Supplier 4: Mouser; Supplier Part Number 4: 700-MAX4073TAXK+T; Mounting Technology: Surface Mount; Code_JEDEC: MO-203; ComponentLink1Description: Manufacturer URL; ComponentLink1URL: http://www.maximintegrated.com/; ComponentLink2Description: Datasheet; ComponentLink2URL: http://datasheets.maximintegrated.com/en/ds/MAX4073-MAX4073T.pdf; ComponentLink3Description: Package Specification; ComponentLink3URL: http://pdfserv.maximintegrated.com/package_dwgs/21-0076.PDF
footprint MAXM-X5+1_N (SOT23, 5-Leads, Body 2x1.25mm, Pitch 0.65mm, IPC Medium Density)
footprint MAXM-X5+1_L (SOT23, 5-Leads, Body 2x1.25mm, Pitch 0.65mm, IPC High Density)
footprint MAXM-X5+1_M (SOT23, 5-Leads, Body 2x1.25mm, Pitch 0.65mm, IPC Low Density)
pins: 1 OUT (out) "Voltage Output. VOUT is proportional to VSENSE. Output impedance is approximately 12k ohm.", 2 GND (power) "Ground", 3 VCC (power) "Supply Voltage Input. Bypass to GND with a 0.1uF capacitor", 4 RS+ (in) "Power-Side Connection to the External Sense Resistor", 5 RS- (in) "Load-side connection to the external sense resistor"

## MAX4073TAXK-T
designator U?
Lowest-Cost, Voltage-Output, High-Side Current-Sense Amplifier, 20 V / V Gain, -40 to 125 degC, 5-Pin SC70 (X5-1), Tape and Reel; PartNumber: MAX4073TAXK-T; Bi-Dir. Curr. Sense: No; Gain: 20 V/V, 50 V/V ,100 V/V; Industry Qualified: Automotive - General; DatasheetVersion: Rev. 1; PackageVersion: Rev. F, 06/2011; PackageReference: X5-1; PackageDescription: 5-Pin SC70 Transistor Package (X5-1), Body 2 x 1.25 mm, Pitch 0.65 mm; Supplier 1: Digi-Key; Supplier Part Number 1: MAX4073TAXK-T-ND; Supplier 2: Mouser; Supplier Part Number 2: 700-MAX4073TAXK-T-; Mounting Technology: Surface Mount; Code_JEDEC: MO-203; ComponentLink1Description: Manufacturer URL; ComponentLink1URL: http://www.maximintegrated.com/; ComponentLink2Description: Datasheet; ComponentLink2URL: http://datasheets.maximintegrated.com/en/ds/MAX4073-MAX4073T.pdf; ComponentLink3Description: Package Specification; ComponentLink3URL: http://pdfserv.maximintegrated.com/package_dwgs/21-0076.PDF
footprint MAXM-X5-1_N (SOT23, 5-Leads, Body 2x1.25mm, Pitch 0.65mm, IPC Medium Density)
footprint MAXM-X5-1_L (SOT23, 5-Leads, Body 2x1.25mm, Pitch 0.65mm, IPC High Density)
footprint MAXM-X5-1_M (SOT23, 5-Leads, Body 2x1.25mm, Pitch 0.65mm, IPC Low Density)
pins: 1 OUT (out) "Voltage Output. VOUT is proportional to VSENSE. Output impedance is approximately 12k ohm.", 2 GND (power) "Ground", 3 VCC (power) "Supply Voltage Input. Bypass to GND with a 0.1uF capacitor", 4 RS+ (in) "Power-Side Connection to the External Sense Resistor", 5 RS- (in) "Load-side connection to the external sense resistor"

## MAX4080FASA
designator U?
76 V, High-Side, Uni-directional Current-Sense Amplifier, 5 V / V Gain, -40 to 125 degC, 8-Pin SOIC (S8-2); PartNumber: MAX4080FASA; Bi-Dir. Curr. Sense: No; Gain: 5 V/V, 20 V/V ,60 V/V; Industry Qualified: Automotive - AECQ100, Automotive - General; DatasheetVersion: Rev. 4; PackageVersion: Rev. D, 10/2012; PackageReference: S8-2; PackageDescription: 8-Pin Small-Outline IC, Narrow (0.15in) (S8-2), Body 4.90 x 3.90 mm, Pitch 1.27 mm; Supplier 1: Digi-Key; Supplier Part Number 1: MAX4080FASA-ND; Supplier 2: Mouser; Supplier Part Number 2: 700-MAX4080FASA-NR; Mounting Technology: Surface Mount; Code_JEDEC: MS012; ComponentLink1Description: Manufacturer URL; ComponentLink1URL: http://www.maximintegrated.com/; ComponentLink2Description: Datasheet; ComponentLink2URL: http://datasheets.maximintegrated.com/en/ds/MAX4080-MAX4081.pdf; ComponentLink3Description: Package Specification; ComponentLink3URL: http://pdfserv.maximintegrated.com/package_dwgs/21-0041.PDF
footprint MAXM-S8-2_N (SOIC, 8-Leads, Body 4.90x3.90mm, Pitch 1.27mm, IPC Medium Density)
footprint MAXM-S8-2_L (SOIC, 8-Leads, Body 4.90x3.90mm, Pitch 1.27mm, IPC High Density)
footprint MAXM-S8-2_M (SOIC, 8-Leads, Body 4.90x3.90mm, Pitch 1.27mm, IPC Low Density)
pins: 1 RS+ (in) "Power connection to the external-sense resistor.", 2 VCC (power) "Supply Voltage Input. Decouple VCC to GND with at least a 0.1uF capacitor to bypass line transients.", 3 NC "No Connection. No internal connection. Leave open or connect to ground.", 4 GND (power) "Ground", 5 OUT (out) "Voltage Output. For the unidirectional MAX4080, VOUT is proportional to VSENSE. For the bidirectional MAX4081, the difference voltage (VOUT - VREF) is proportional to VSENSE and indicates the correct polarity.", 6 NC "No Connection. No internal connection. Leave open or connect to ground.", 7 NC "No Connection. No internal connection. Leave open or connect to ground.", 8 RS- (in) "Load connection to the external sense resistor."

## MAX4080FASA+
designator U?
76 V, High-Side, Uni-directional Current-Sense Amplifier, 5 V / V Gain, -40 to 125 degC, 8-Pin SOIC (S8+2), Pb-Free; PartNumber: MAX4080FASA+; Bi-Dir. Curr. Sense: No; Gain: 5 V/V, 20 V/V ,60 V/V; Industry Qualified: Automotive - AECQ100, Automotive - General; DatasheetVersion: Rev. 4; PackageVersion: Rev. D, 10/2012; PackageReference: S8+2; PackageDescription: 8-Pin Small-Outline IC, Narrow (0.15in) (S8+2), Body 4.90 x 3.90 mm, Pitch 1.27 mm; Supplier 1: Digi-Key; Supplier Part Number 1: MAX4080FASA+-ND; Supplier 2: Farnell; Supplier Part Number 2: 2113112; Supplier 3: Newark; Supplier Part Number 3: 95T9188; Supplier 4: Mouser; Supplier Part Number 4: 700-MAX4080FASA; Mounting Technology: Surface Mount; Code_JEDEC: MS012; ComponentLink1Description: Manufacturer URL; ComponentLink1URL: http://www.maximintegrated.com/; ComponentLink2Description: Datasheet; ComponentLink2URL: http://datasheets.maximintegrated.com/en/ds/MAX4080-MAX4081.pdf; ComponentLink3Description: Package Specification; ComponentLink3URL: http://pdfserv.maximintegrated.com/package_dwgs/21-0041.PDF
footprint MAXM-S8+2_N (SOIC, 8-Leads, Body 4.90x3.90mm, Pitch 1.27mm, IPC Medium Density)
footprint MAXM-S8+2_L (SOIC, 8-Leads, Body 4.90x3.90mm, Pitch 1.27mm, IPC High Density)
footprint MAXM-S8+2_M (SOIC, 8-Leads, Body 4.90x3.90mm, Pitch 1.27mm, IPC Low Density)
pins: 1 RS+ (in) "Power connection to the external-sense resistor.", 2 VCC (power) "Supply Voltage Input. Decouple VCC to GND with at least a 0.1uF capacitor to bypass line transients.", 3 NC "No Connection. No internal connection. Leave open or connect to ground.", 4 GND (power) "Ground", 5 OUT (out) "Voltage Output. For the unidirectional MAX4080, VOUT is proportional to VSENSE. For the bidirectional MAX4081, the difference voltage (VOUT - VREF) is proportional to VSENSE and indicates the correct polarity.", 6 NC "No Connection. No internal connection. Leave open or connect to ground.", 7 NC "No Connection. No internal connection. Leave open or connect to ground.", 8 RS- (in) "Load connection to the external sense resistor."

## MAX4080FASA+T
designator U?
76 V, High-Side, Uni-directional Current-Sense Amplifier, 5 V / V Gain, -40 to 125 degC, 8-Pin SOIC (S8+2), Pb-Free, Tape and Reel; PartNumber: MAX4080FASA+T; Bi-Dir. Curr. Sense: No; Gain: 5 V/V, 20 V/V ,60 V/V; Industry Qualified: Automotive - AECQ100, Automotive - General; DatasheetVersion: Rev. 4; PackageVersion: Rev. D, 10/2012; PackageReference: S8+2; PackageDescription: 8-Pin Small-Outline IC, Narrow (0.15in) (S8+2), Body 4.90 x 3.90 mm, Pitch 1.27 mm; Supplier 1: Digi-Key; Supplier Part Number 1: MAX4080FASA+T-ND; Supplier 2: Mouser; Supplier Part Number 2: 700-MAX4080FASA+T; Mounting Technology: Surface Mount; Code_JEDEC: MS012; ComponentLink1Description: Manufacturer URL; ComponentLink1URL: http://www.maximintegrated.com/; ComponentLink2Description: Datasheet; ComponentLink2URL: http://datasheets.maximintegrated.com/en/ds/MAX4080-MAX4081.pdf; ComponentLink3Description: Package Specification; ComponentLink3URL: http://pdfserv.maximintegrated.com/package_dwgs/21-0041.PDF
footprint MAXM-S8+2_N (SOIC, 8-Leads, Body 4.90x3.90mm, Pitch 1.27mm, IPC Medium Density)
footprint MAXM-S8+2_L (SOIC, 8-Leads, Body 4.90x3.90mm, Pitch 1.27mm, IPC High Density)
footprint MAXM-S8+2_M (SOIC, 8-Leads, Body 4.90x3.90mm, Pitch 1.27mm, IPC Low Density)
pins: 1 RS+ (in) "Power connection to the external-sense resistor.", 2 VCC (power) "Supply Voltage Input. Decouple VCC to GND with at least a 0.1uF capacitor to bypass line transients.", 3 NC "No Connection. No internal connection. Leave open or connect to ground.", 4 GND (power) "Ground", 5 OUT (out) "Voltage Output. For the unidirectional MAX4080, VOUT is proportional to VSENSE. For the bidirectional MAX4081, the difference voltage (VOUT - VREF) is proportional to VSENSE and indicates the correct polarity.", 6 NC "No Connection. No internal connection. Leave open or connect to ground.", 7 NC "No Connection. No internal connection. Leave open or connect to ground.", 8 RS- (in) "Load connection to the external sense resistor."

## MAX4080FASA-T
designator U?
76 V, High-Side, Uni-directional Current-Sense Amplifier, 5 V / V Gain, -40 to 125 degC, 8-Pin SOIC (S8-2), Tape and Reel; PartNumber: MAX4080FASA-T; Bi-Dir. Curr. Sense: No; Gain: 5 V/V, 20 V/V ,60 V/V; Industry Qualified: Automotive - AECQ100, Automotive - General; DatasheetVersion: Rev. 4; PackageVersion: Rev. D, 10/2012; PackageReference: S8-2; PackageDescription: 8-Pin Small-Outline IC, Narrow (0.15in) (S8-2), Body 4.90 x 3.90 mm, Pitch 1.27 mm; Supplier 1: Digi-Key; Supplier Part Number 1: MAX4080FASA-T-ND; Supplier 2: Mouser; Supplier Part Number 2: 700-MAX4080FASA-T-; Mounting Technology: Surface Mount; Code_JEDEC: MS012; ComponentLink1Description: Manufacturer URL; ComponentLink1URL: http://www.maximintegrated.com/; ComponentLink2Description: Datasheet; ComponentLink2URL: http://datasheets.maximintegrated.com/en/ds/MAX4080-MAX4081.pdf; ComponentLink3Description: Package Specification; ComponentLink3URL: http://pdfserv.maximintegrated.com/package_dwgs/21-0041.PDF
footprint MAXM-S8-2_N (SOIC, 8-Leads, Body 4.90x3.90mm, Pitch 1.27mm, IPC Medium Density)
footprint MAXM-S8-2_L (SOIC, 8-Leads, Body 4.90x3.90mm, Pitch 1.27mm, IPC High Density)
footprint MAXM-S8-2_M (SOIC, 8-Leads, Body 4.90x3.90mm, Pitch 1.27mm, IPC Low Density)
pins: 1 RS+ (in) "Power connection to the external-sense resistor.", 2 VCC (power) "Supply Voltage Input. Decouple VCC to GND with at least a 0.1uF capacitor to bypass line transients.", 3 NC "No Connection. No internal connection. Leave open or connect to ground.", 4 GND (power) "Ground", 5 OUT (out) "Voltage Output. For the unidirectional MAX4080, VOUT is proportional to VSENSE. For the bidirectional MAX4081, the difference voltage (VOUT - VREF) is proportional to VSENSE and indicates the correct polarity.", 6 NC "No Connection. No internal connection. Leave open or connect to ground.", 7 NC "No Connection. No internal connection. Leave open or connect to ground.", 8 RS- (in) "Load connection to the external sense resistor."

## MAX4080FAUA
designator U?
76 V, High-Side, Uni-directional Current-Sense Amplifier, 5 V / V Gain, -40 to 125 degC, 8-Pin SOP (U8-1); PartNumber: MAX4080FAUA; Bi-Dir. Curr. Sense: No; Gain: 5 V/V, 20 V/V ,60 V/V; Industry Qualified: Automotive - AECQ100, Automotive - General; DatasheetVersion: Rev. 4; PackageVersion: Rev. L, 08/2009; PackageReference: U8-1; PackageDescription: 8-Pin Micro-MAX, Thin Shrink Small-Outline (U8-1), Body 3 x 3 mm, Pitch 0.65mm; Supplier 1: Mouser; Supplier Part Number 1: N/A; Mounting Technology: Surface Mount; Code_JEDEC: MO-187; ComponentLink1Description: Manufacturer URL; ComponentLink1URL: http://www.maximintegrated.com/; ComponentLink2Description: Datasheet; ComponentLink2URL: http://datasheets.maximintegrated.com/en/ds/MAX4080-MAX4081.pdf; ComponentLink3Description: Package Specification; ComponentLink3URL: http://pdfserv.maximintegrated.com/package_dwgs/21-0036.PDF
footprint MAXM-U8-1_N (SOP, 8-Leads, Body 3x3mm, Pitch 0.65mm, IPC Medium Density)
footprint MAXM-U8-1_L (SOP, 8-Leads, Body 3x3mm, Pitch 0.65mm, IPC High Density)
footprint MAXM-U8-1_M (SOP, 8-Leads, Body 3x3mm, Pitch 0.65mm, IPC Low Density)
pins: 1 RS+ (in) "Power connection to the external-sense resistor.", 2 VCC (power) "Supply Voltage Input. Decouple VCC to GND with at least a 0.1uF capacitor to bypass line transients.", 3 NC "No Connection. No internal connection. Leave open or connect to ground.", 4 GND (power) "Ground", 5 OUT (out) "Voltage Output. For the unidirectional MAX4080, VOUT is proportional to VSENSE. For the bidirectional MAX4081, the difference voltage (VOUT - VREF) is proportional to VSENSE and indicates the correct polarity.", 6 NC "No Connection. No internal connection. Leave open or connect to ground.", 7 NC "No Connection. No internal connection. Leave open or connect to ground.", 8 RS- (in) "Load connection to the external sense resistor."

## MAX4080FAUA+
designator U?
76 V, High-Side, Uni-directional Current-Sense Amplifier, 5 V / V Gain, -40 to 125 degC, 8-Pin SOP (U8+1), Pb-Free; PartNumber: MAX4080FAUA+; Bi-Dir. Curr. Sense: No; Gain: 5 V/V, 20 V/V ,60 V/V; Industry Qualified: Automotive - AECQ100, Automotive - General; DatasheetVersion: Rev. 4; PackageVersion: Rev. L, 08/2009; PackageReference: U8+1; PackageDescription: 8-Pin Micro-MAX, Thin Shrink Small-Outline (U8+1), Body 3 x 3 mm, Pitch 0.65 mm; Supplier 1: Digi-Key; Supplier Part Number 1: MAX4080FAUA+-ND; Supplier 2: Mouser; Supplier Part Number 2: 700-MAX4080FAUA; Mounting Technology: Surface Mount; Code_JEDEC: MO-187; ComponentLink1Description: Manufacturer URL; ComponentLink1URL: http://www.maximintegrated.com/; ComponentLink2Description: Datasheet; ComponentLink2URL: http://datasheets.maximintegrated.com/en/ds/MAX4080-MAX4081.pdf; ComponentLink3Description: Package Specification; ComponentLink3URL: http://pdfserv.maximintegrated.com/package_dwgs/21-0036.PDF
footprint MAXM-U8+1_N (SOP, 8-Leads, Body 3x3mm, Pitch 0.65mm, IPC Medium Density)
footprint MAXM-U8+1_L (SOP, 8-Leads, Body 3x3mm, Pitch 0.65mm, IPC High Density)
footprint MAXM-U8+1_M (SOP, 8-Leads, Body 3x3mm, Pitch 0.65mm, IPC Low Density)
pins: 1 RS+ (in) "Power connection to the external-sense resistor.", 2 VCC (power) "Supply Voltage Input. Decouple VCC to GND with at least a 0.1uF capacitor to bypass line transients.", 3 NC "No Connection. No internal connection. Leave open or connect to ground.", 4 GND (power) "Ground", 5 OUT (out) "Voltage Output. For the unidirectional MAX4080, VOUT is proportional to VSENSE. For the bidirectional MAX4081, the difference voltage (VOUT - VREF) is proportional to VSENSE and indicates the correct polarity.", 6 NC "No Connection. No internal connection. Leave open or connect to ground.", 7 NC "No Connection. No internal connection. Leave open or connect to ground.", 8 RS- (in) "Load connection to the external sense resistor."

## MAX4080FAUA+T
designator U?
76 V, High-Side, Uni-directional Current-Sense Amplifier, 5 V / V Gain, -40 to 125 degC, 8-Pin SOP (U8+1), Pb-Free, Tape and Reel; PartNumber: MAX4080FAUA+T; Bi-Dir. Curr. Sense: No; Gain: 5 V/V, 20 V/V ,60 V/V; Industry Qualified: Automotive - AECQ100, Automotive - General; DatasheetVersion: Rev. 4; PackageVersion: Rev. L, 08/2009; PackageReference: U8+1; PackageDescription: 8-Pin Micro-MAX, Thin Shrink Small-Outline (U8+1), Body 3 x 3 mm, Pitch 0.65 mm; Supplier 1: Digi-Key; Supplier Part Number 1: MAX4080FAUA+T-ND; Supplier 2: Mouser; Supplier Part Number 2: 700-MAX4080FAUA+T; Mounting Technology: Surface Mount; Code_JEDEC: MO-187; ComponentLink1Description: Manufacturer URL; ComponentLink1URL: http://www.maximintegrated.com/; ComponentLink2Description: Datasheet; ComponentLink2URL: http://datasheets.maximintegrated.com/en/ds/MAX4080-MAX4081.pdf; ComponentLink3Description: Package Specification; ComponentLink3URL: http://pdfserv.maximintegrated.com/package_dwgs/21-0036.PDF
footprint MAXM-U8+1_N (SOP, 8-Leads, Body 3x3mm, Pitch 0.65mm, IPC Medium Density)
footprint MAXM-U8+1_L (SOP, 8-Leads, Body 3x3mm, Pitch 0.65mm, IPC High Density)
footprint MAXM-U8+1_M (SOP, 8-Leads, Body 3x3mm, Pitch 0.65mm, IPC Low Density)
pins: 1 RS+ (in) "Power connection to the external-sense resistor.", 2 VCC (power) "Supply Voltage Input. Decouple VCC to GND with at least a 0.1uF capacitor to bypass line transients.", 3 NC "No Connection. No internal connection. Leave open or connect to ground.", 4 GND (power) "Ground", 5 OUT (out) "Voltage Output. For the unidirectional MAX4080, VOUT is proportional to VSENSE. For the bidirectional MAX4081, the difference voltage (VOUT - VREF) is proportional to VSENSE and indicates the correct polarity.", 6 NC "No Connection. No internal connection. Leave open or connect to ground.", 7 NC "No Connection. No internal connection. Leave open or connect to ground.", 8 RS- (in) "Load connection to the external sense resistor."